# Altium integrated library 3Dheater.IntLib: 53 symbols
Pins are listed as number, name and electrical type; pins without a type are passive.

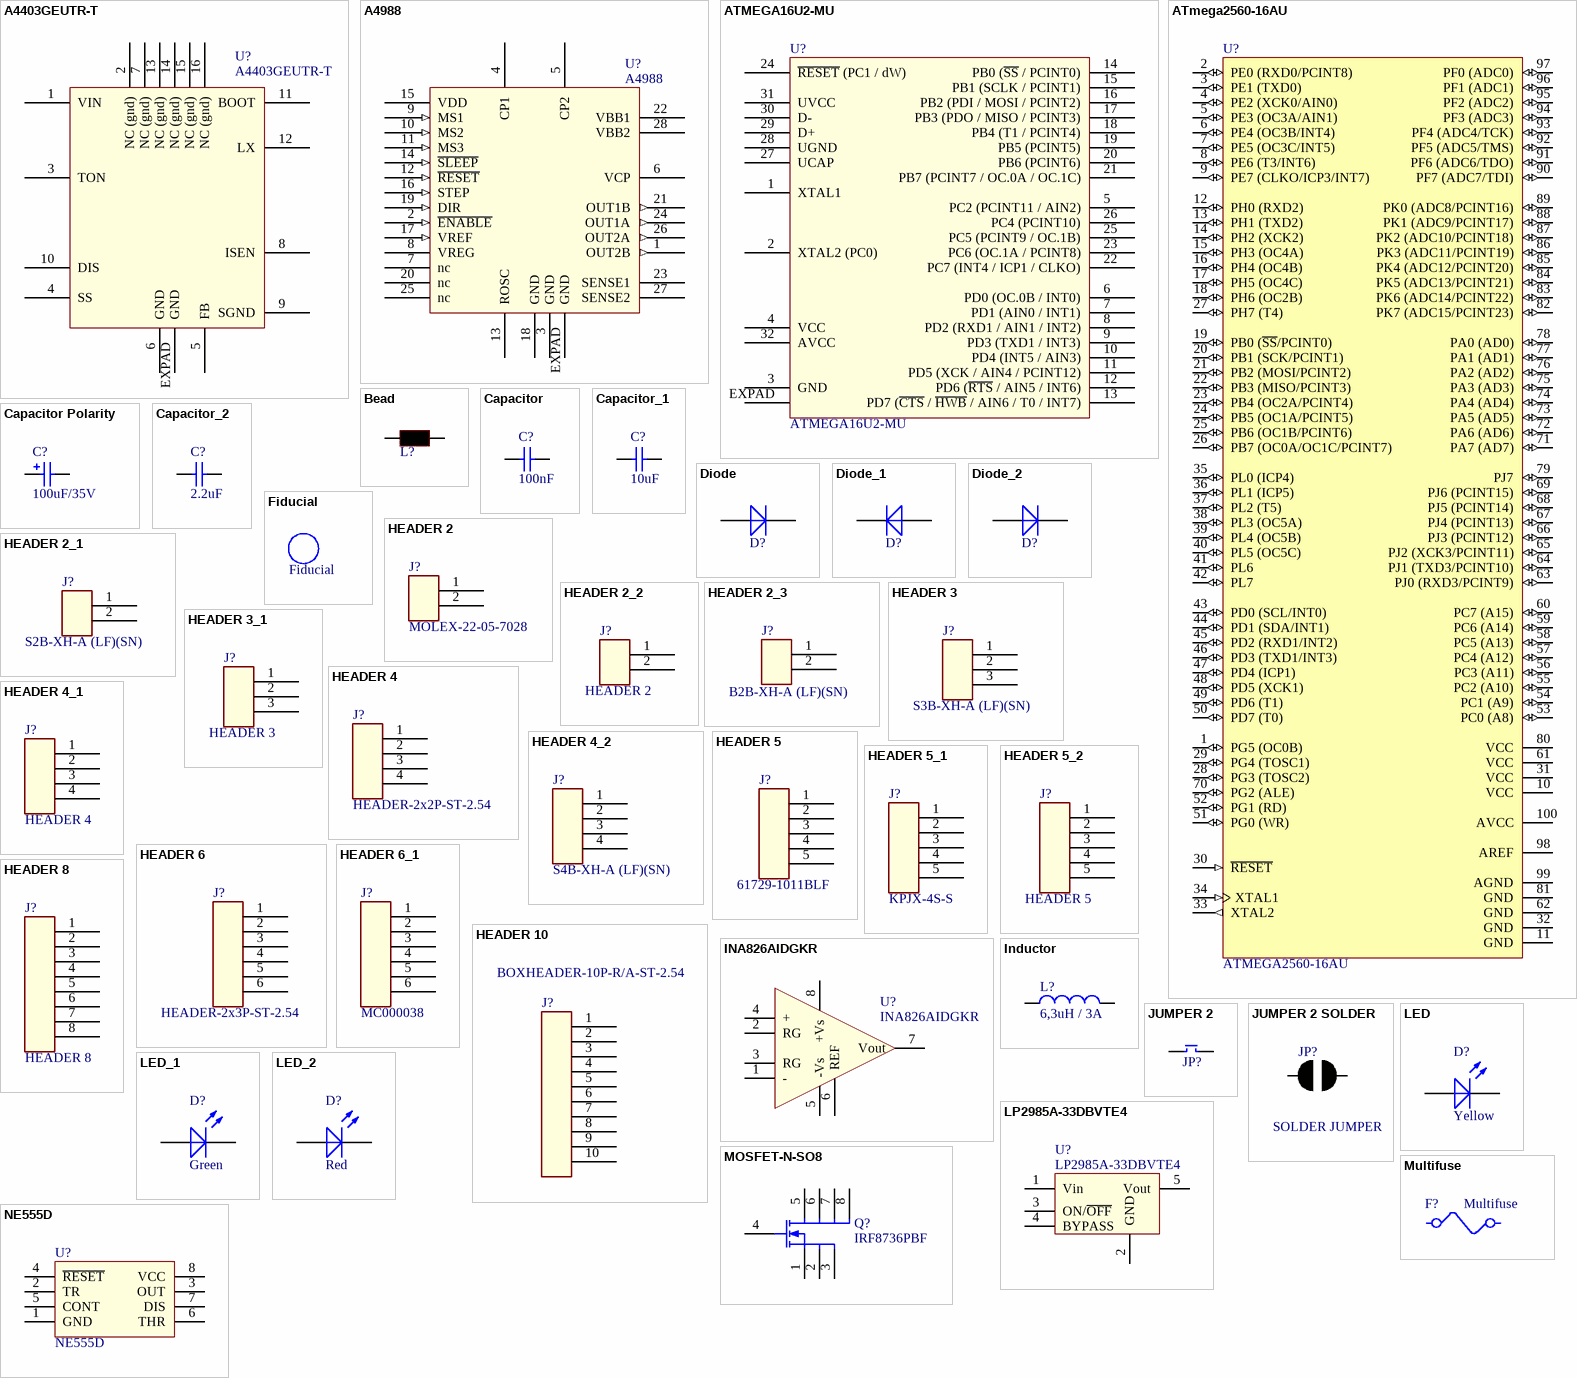
[diagram p0: symbols A4403GEUTR-T to NE555D]

## A4403GEUTR-T
designator U?
RO IC A4403GEUTR-T QFN-16 ALLEGRO; ID: Library_ICS-0010; Info: Valley Current Mode Control Buck Converter; Faber ItemCode: 36924500; Mfg: Allegro; Mfg code: A4403GEUTR-T; Value: A4403GEUTR-T
footprint QFN65P400X400X80-16N-EX
pins: 1 VIN, 2 NC (gnd), 3 TON, 4 SS, 5 FB, 6 GND, 7 NC (gnd), 8 ISEN, 9 SGND, 10 DIS, 11 BOOT, 12 LX, 13 NC (gnd), 14 NC (gnd), 15 NC (gnd), 16 NC (gnd), EXPAD GND

## A4988
designator U?
RO IC A4988 QFN-28 ALLEGRO; ID: Library_ICS-0002; Mfg code: A4988SETTR-T; Info: DMOS Microstepping Driver with Translator and Overcurrent Protection; Faber ItemCode: 36921600; Mfg: Allegro; Value: A4988
footprint QFN50P500X500X100-28-EX
pins: 1 OUT2B (out), 2 ~{ENABLE} (in), 3 GND (power), 4 CP1, 5 CP2, 6 VCP, 7 nc, 8 VREG (power), 9 MS1 (in), 10 MS2 (in), 11 MS3 (in), 12 ~{RESET} (in), 13 ROSC, 14 ~{SLEEP} (in), 15 VDD (power), 16 STEP (in), 17 VREF (in), 18 GND, 19 DIR (in), 20 nc, 21 OUT1B (out), 22 VBB1 (power), 23 SENSE1, 24 OUT1A (out), 25 nc, 26 OUT2A (out), 27 SENSE2, 28 VBB2 (power), EXPAD GND (power)

## ATMEGA16U2-MU
designator U?
RO IC ATMEGA16U2-MU QFN-32 ATMEL; ID: Library_ICS-0004; Info: 8-bit Microcontroller with 16K Bytes of ISP Flash and USB Controller; Faber ItemCode: 36924600; Mfg: Atmel; Mfg code: ATMEGA16U2-MU; Value: ATMEGA16U2-MU
footprint QFN50P500X500X100-32-EX
pins: 1 XTAL1, 2 XTAL2 (PC0), 3 GND, 4 VCC, 5 PC2 (PCINT11 / AIN2), 6 PD0 (OC.0B / INT0), 7 PD1 (AIN0 / INT1), 8 PD2 (RXD1 / AIN1 / INT2), 9 PD3 (TXD1 / INT3), 10 PD4 (INT5 / AIN3), 11 PD5 (XCK / AIN4 / PCINT12), 12 PD6 (~{RTS} / AIN5 / INT6), 13 PD7 (~{CTS} / ~{HWB} / AIN6 / T0 / INT7), 14 PB0 (~{SS} / PCINT0), 15 PB1 (SCLK / PCINT1), 16 PB2 (PDI / MOSI / PCINT2), 17 PB3 (PDO / MISO / PCINT3), 18 PB4 (T1 / PCINT4), 19 PB5 (PCINT5), 20 PB6 (PCINT6), 21 PB7 (PCINT7 / OC.0A / OC.1C), 22 PC7 (INT4 / ICP1 / CLKO), 23 PC6 (OC.1A / PCINT8), 24 ~{RESET} (PC1 / dW), 25 PC5 (PCINT9 / OC.1B), 26 PC4 (PCINT10), 27 UCAP, 28 UGND, 29 D+, 30 D-, 31 UVCC, 32 AVCC, EXPAD

## ATmega2560-16AU
designator U?, comment ATMEGA2560-16AU
RO IC ATMEGA2560-16AU TQFP-100 ATMEL; ID: Library_ICS-0001; Info: 8-bit Atmel Microcontroller with 256KB Flash, 4KB EEPROM, 8KB RAM; Faber ItemCode: 36924700; Mfg: Atmel; Mfg code: ATMEGA2560-16AU; Value: ATMEGA2560-16AU
footprint TSQFP50P1600X1600X120-100N
pins: 1 PG5 (OC0B) (io), 2 PE0 (RXD0/PCINT8) (io), 3 PE1 (TXD0) (io), 4 PE2 (XCK0/AIN0) (io), 5 PE3 (OC3A/AIN1) (io), 6 PE4 (OC3B/INT4) (io), 7 PE5 (OC3C/INT5) (io), 8 PE6 (T3/INT6) (io), 9 PE7 (CLKO/ICP3/INT7) (io), 10 VCC (power), 11 GND (power), 12 PH0 (RXD2) (io), 13 PH1 (TXD2) (io), 14 PH2 (XCK2) (io), 15 PH3 (OC4A) (io), 16 PH4 (OC4B) (io), 17 PH5 (OC4C) (io), 18 PH6 (OC2B) (io), 19 PB0 (~{SS}/PCINT0) (io), 20 PB1 (SCK/PCINT1) (io), 21 PB2 (MOSI/PCINT2) (io), 22 PB3 (MISO/PCINT3) (io), 23 PB4 (OC2A/PCINT4) (io), 24 PB5 (OC1A/PCINT5) (io), 25 PB6 (OC1B/PCINT6) (io), 26 PB7 (OC0A/OC1C/PCINT7) (io), 27 PH7 (T4) (io), 28 PG3 (TOSC2) (io), 29 PG4 (TOSC1) (io), 30 ~{RESET} (in), 31 VCC (power), 32 GND (power), 33 XTAL2 (out), 34 XTAL1 (in), 35 PL0 (ICP4) (io), 36 PL1 (ICP5) (io), 37 PL2 (T5) (io), 38 PL3 (OC5A) (io), 39 PL4 (OC5B) (io), 40 PL5 (OC5C) (io), 41 PL6 (io), 42 PL7 (io), 43 PD0 (SCL/INT0) (io), 44 PD1 (SDA/INT1) (io), 45 PD2 (RXD1/INT2) (io), 46 PD3 (TXD1/INT3) (io), 47 PD4 (ICP1) (io), 48 PD5 (XCK1) (io), 49 PD6 (T1) (io), 50 PD7 (T0) (io), 51 PG0 (WR) (io), 52 PG1 (RD) (io), 53 PC0 (A8) (io), 54 PC1 (A9) (io), 55 PC2 (A10) (io), 56 PC3 (A11) (io), 57 PC4 (A12) (io), 58 PC5 (A13) (io), 59 PC6 (A14) (io), 60 PC7 (A15) (io), 61 VCC (power), 62 GND (power), 63 PJ0 (RXD3/PCINT9) (io), 64 PJ1 (TXD3/PCINT10) (io), 65 PJ2 (XCK3/PCINT11) (io), 66 PJ3 (PCINT12) (io), 67 PJ4 (PCINT13) (io), 68 PJ5 (PCINT14) (io), 69 PJ6 (PCINT15) (io), 70 PG2 (ALE) (io), 71 PA7 (AD7) (io), 72 PA6 (AD6) (io), 73 PA5 (AD5) (io), 74 PA4 (AD4) (io), 75 PA3 (AD3) (io), 76 PA2 (AD2) (io), 77 PA1 (AD1) (io), 78 PA0 (AD0) (io), 79 PJ7 (io), 80 VCC (power), 81 GND (power), 82 PK7 (ADC15/PCINT23) (io), 83 PK6 (ADC14/PCINT22) (io), 84 PK5 (ADC13/PCINT21) (io), 85 PK4 (ADC12/PCINT20) (io), 86 PK3 (ADC11/PCINT19) (io), 87 PK2 (ADC10/PCINT18) (io), 88 PK1 (ADC9/PCINT17) (io), 89 PK0 (ADC8/PCINT16) (io), 90 PF7 (ADC7/TDI) (io), 91 PF6 (ADC6/TDO) (io), 92 PF5 (ADC5/TMS) (io), 93 PF4 (ADC4/TCK) (io), 94 PF3 (ADC3) (io), 95 PF2 (ADC2) (io), 96 PF1 (ADC1) (io), 97 PF0 (ADC0) (io), 98 AREF (power), 99 AGND (power), 100 AVCC (power)

## Bead
designator L?  (value not drawn)
RO FERRIET BLM21PG221SN1D  0805; ID: Library_COIL-0001; Faber ItemCode: 36571200; Value: Bead
footprint L0805
pins: 1, 2

## Capacitor
designator C?, comment 100nF
RO X7R 100nF 10% 50V 0603; ID: Library_CAP-0002; Faber ItemCode: 45068500; Value: 100nF
footprint C0603
pins: 1, 2

## Capacitor Polarity
designator C?, comment 100uF/35V
RO ELCO 100uF 20% 35V CASE-D EEEFP PAN; ID: Library_CAP-0004; Faber ItemCode: 36865800; Value: 100uF/35V
footprint ELCO Case D
pins: 1, 2
1 alternate drawing of the same symbol

## Capacitor_1
designator C?, comment 10uF
RO X5R 10UF 10% 35V 1206; ID: Library_CAP-0005; Faber ItemCode: 35436800; Value: 10uF
footprint C1206
pins: 1, 2

## Capacitor_2
designator C?, comment 2.2uF
RO X5R 2,2uF 10% 50V 0805; ID: Library_CAP-0009; Mfg: MURATA; Mfg code: GRM21BR61H225KA73L; Faber ItemCode: 36924800; Value: 2.2uF
footprint C0805
pins: 1, 2

## Diode
designator D?, comment 1N4148  (value not drawn)
RO DIODE 1N4148WS-V-GS08 SOT-323  VISHAY; ID: Library_DIO-0002; Faber ItemCode: 36650500; Info: Small Signal Fast Switching Diode; Mfg: VISHAY; Value: 1N4148
footprint SOD323
pins: 1 A, 2 K

## Diode_1
designator D?, comment S1G  (value not drawn)
RO DIODE S1G DO-214AC; ID: Library_DIO-0001; Faber ItemCode: 32284000; Info: Fast Rectifiers 1A 400V; Value: S1G
footprint DO214AC (SMA)
pins: 1 A, 2 K

## Diode_2
designator D?, comment S1G  (value not drawn)
RO DIODE S1G DO-214AC; ID: Library_DIO-0001; Faber ItemCode: 32284000; Info: Fast Rectifiers 1A 400V; Value: S1G
footprint DO214AC (SMA)
pins: 1 A, 2 K

## Fiducial
designator Fid?  (no BOM)
ID: Library_MISC-0003; Faber ItemCode: -; Mfg: -; Mfg code: -; Value: Fiducial
footprint Fiducial

## HEADER 2
designator J?, comment MOLEX-22-05-7028
RO CONN PR 2p HKS 22-05-7028 MOLEX; ID: Library_CON-0006; Info: 2.54mm Pitch KK?Wire-to-Board Header, Right Angle, with Friction Lock, 2 Circuits; Faber ItemCode: 36926400; Mfg: MOLEX; Mfg code: 22-05-7028; Value: MOLEX-22-05-7028
footprint MOLEX-22-05-7028
pins: 1, 2

## HEADER 2_1
designator J?, comment S2B-XH-A (LF)(SN)
RO CONN PR 2p HKS S2B-XH-A (LF)(SN) JST; ID: Library_CON-0004; Mfg: JST (JAPAN SOLDERLESS TERMINALS); Faber ItemCode: 36926700; Mfg code: S2B-XH-A (LF)(SN); Value: S2B-XH-A (LF)(SN)
footprint S2B-XH-A (LF)(SN)
pins: 1, 2

## HEADER 2_2
designator J?, comment HEADER 2
HEADER-1x2P-ST-2.54; ID: Library_CON-0013; Value: HEADER 2
footprint HEADER-1x2P-ST-2.54
pins: 1, 2

## HEADER 2_3
designator J?, comment B2B-XH-A (LF)(SN)
CONN PR 2p B2B-XH-A JST; ID: Library_CON-0004; Mfg: JST (JAPAN SOLDERLESS TERMINALS); Faber ItemCode: 36863500; Mfg code: B2B-XH-A (LF)(SN); Value: B2B-XH-A (LF)(SN)
footprint B2B-XH-A (LF)(SN)
pins: 1, 2

## HEADER 3
designator J?, comment S3B-XH-A (LF)(SN)
RO CONN PR 3p HKS S3B-XH-A (LF)(SN) JST; ID: Library_CON-0020; Faber ItemCode: 36948200; Mfg: JST (JAPAN SOLDERLESS TERMINALS); Mfg code: S3B-XH-A (LF)(SN); Value: S3B-XH-A (LF)(SN)
footprint S3B-XH-A (LF)(SN)
pins: 1, 2, 3

## HEADER 3_1
designator J?, comment HEADER 3
HEADER-1x3P-ST-2.54; ID: Library_CON-0017; Value: HEADER 3
footprint HEADER-1x3P-ST-2.54
pins: 1, 2, 3

## HEADER 4
designator J?, comment HEADER-2x2P-ST-2.54
HDR 2X2P; ID: Library_CON-0011; Value: HEADER-2x2P-ST-2.54
footprint HEADER-2x2P-ST-2.54
pins: 1, 2, 3, 4

## HEADER 4_1
designator J?, comment HEADER 4
HEADER-1x4P-ST-2.54; ID: Library_CON-0014; Value: HEADER 4
footprint HEADER-1x4P-ST-2.54
pins: 1, 2, 3, 4

## HEADER 4_2
designator J?, comment S4B-XH-A (LF)(SN)
RO CONN PR 4p HKS S4B-XH-A (LF)(SN) JST; ID: Library_CON-0005; Mfg: JST (JAPAN SOLDERLESS TERMINALS); Faber ItemCode: 36926500; Mfg code: S4B-XH-A (LF)(SN); Value: S4B-XH-A (LF)(SN)
footprint S4B-XH-A (LF)(SN)
pins: 1, 2, 3, 4

## HEADER 5
designator J?, comment 61729-1011BLF
RO CONN PR USB-B HKS 61729-1011BLF FCI; ID: Library_CON-0001; Faber ItemCode: 36924400; Mfg: FCI; Mfg code: 61729-1011BLF; Value: 61729-1011BLF
footprint 61729-1011BLF
pins: 1, 2, 3, 4, 5

## HEADER 5_1
designator J?, comment KPJX-4S-S
RO CONN PR KPJX-4S-S KYCON; ID: Library_CON-0009; Info: Shielded version; Faber ItemCode: 36925000; Mfg: KYCON; Mfg code: KPJX-4S-S; Value: KPJX-4S-S
footprint KPJX-4S-S
pins: 1, 2, 3, 4, 5

## HEADER 5_2
designator J?, comment HEADER 5
HEADER-1x5P-ST-2.54; ID: Library_CON-0015; Value: HEADER 5
footprint HEADER-1x5P-ST-2.54
pins: 1, 2, 3, 4, 5

## HEADER 6
designator J?, comment HEADER-2x3P-ST-2.54
RO CONN PR HDR 2X3P H4B-06DS-0000 INT; ID: Library_CON-0003; Faber ItemCode: 35149900; Value: HEADER-2x3P-ST-2.54
footprint HEADER-2x3P-ST-2.54
pins: 1, 2, 3, 4, 5, 6

## HEADER 6_1
designator J?, comment MC000038
RO CONN PR 6p MC000038 MULTICOMP; ID: Library_CON-0008; Faber ItemCode: 36925200; Mfg: MULTICOMP; Mfg code: MC000038; Value: MC000038
footprint MC000038
pins: 1, 2, 3, 4, 5, 6

## HEADER 8
designator J?
HEADER-1x8P-ST-2.54; ID: Library_CON-0016; Value: HEADER 8
footprint HEADER-1x8P-ST-2.54
pins: 1, 2, 3, 4, 5, 6, 7, 8

## HEADER 10
designator J?, comment BOXHEADER-10P-R/A-ST-2.54
RO CONN PR HDR BOX 10p HKS 61201021721 WUERTH; ID: Library_CON-0019; Faber ItemCode: 36925800; Value: BOXHEADER-10P-R/A-ST-2.54
footprint BOXHEADER-10P-R/A-ST-2.54
pins: 1, 2, 3, 4, 5, 6, 7, 8, 9, 10

## INA826AIDGKR
designator U?
RO IC INA826AIDGKR MSOP-8 TI; Mfg: Texas Instruments; ID: Library_ICS-0003; Info: Precision, 200-礎 Supply Current, 2.7-V to 36-V Supply Instrumentation Amplifier with Rail-to-Rail Output; Faber ItemCode: 36926300; Mfg code: INA826AIDGKR; Value: INA826AIDGKR
footprint TSOP65P490X110-8N (MSOP8)
pins: 1 -, 2 RG, 3 RG, 4 +, 5 -Vs, 6 REF, 7 Vout, 8 +Vs

## Inductor
designator L?, comment 6,3uH / 3A
RO SPOEL 6,3uH 20% NRS6045T 6R3MMGK TAIYO YUDEN; ID: Library_COIL-0002; Faber ItemCode: 36925300; Mfg code: NRS6045T 6R3MMGK; Value: 6,3uH / 3A; Mfg: TAIYO YUDEN
footprint NRS6045
pins: 1, 2

## JUMPER 2
designator JP?, comment HEADER 2  (value not drawn)
HEADER-1x2P-ST-2.54; ID: Library_CON-0018; Value: HEADER 2
footprint HEADER-1x2P-ST-2.54
pins: 1, 2

## JUMPER 2 SOLDER
designator JP?, comment SOLDER JUMPER
ID: Library_CON-0010; Mfg: -; Mfg code: -; Value: SOLDER JUMPER
footprint JUMPER 2 SOLDER
pins: 1, 2

## LED
designator D?, comment Yellow
RO LED GEEL HSMY-C170 0805  AVAGO; ID: Library_LED-0003; Faber ItemCode: 35160800; Mfg: AVAGO; Mfg code: HSMY-C170; Value: Yellow
footprint LED0805-YELLOW
pins: 1 A, 2 K

## LED_1
designator D?, comment Green
RO LED GROEN HSMG-C170 0805 AVAGO; ID: Library_LED-0002; Faber ItemCode: 35162200; Mfg: AVAGO; Mfg code: HSMG-C170; Value: Green
footprint LED0805-GREEN
pins: 1 A, 2 K

## LED_2
designator D?, comment Red
RO LED ROOD HSMH-C170 0805 AVAGO; ID: Library_LED-0001; Faber ItemCode: 35162100; Mfg: AVAGO; Mfg code: HSMH-C170; Value: Red
footprint LED0805-RED
pins: 1 A, 2 K

## LP2985A-33DBVTE4
designator U?
RO STABI LP2985A-33DBVTE4 SOT-23-5 TI; Mfg: Texas Instruments; ID: Library_ICS-0008; Info: 150-mA LOW-NOISE LOW-DROPOUT REGULATOR WITH SHUTDOWN; Faber ItemCode: 36925100; Mfg code: LP2985A-33DBVTE4; Value: LP2985A-33DBVTE4
footprint SOT95P280X145-5N (SOT23-5L)
pins: 1 Vin, 2 GND, 3 ON/~{OFF}, 4 BYPASS, 5 Vout

## MOSFET-N-SO8
designator Q?, comment IRF8736PBF
IRF8736PBF - MOSFET, N SO-8; Mfg: INTERNATIONAL RECTIFIER; ID: LIBRARY_FET-0002; Info: HEXFET Power MOSFET; Faber ItemCode: 36926000; Mfg code: IRF8736PBF; Value: IRF8736PBF
footprint SOIC127P600X175-8N (SO8)
pins: 1 S, 2 S, 3 S, 4 G, 5 D, 6 D, 7 D, 8 D

## Multifuse
designator F?
RO ZEK MULTI 500MA SMD 1812 MF-MSMF050-2 BOURNS; ID: Library_FUSE-0001; Faber ItemCode: 35502800; Info: MULTIFUSE, SMD, 0.5A; Value: 0.5A; Mfg: BOURNS; Mfg code: MF-MSMF050-2
footprint Multifuse1812
pins: 1, 2

## NE555D
designator U?
RO IC NE555D SO-08 TI; ID: Library_ICS-0009; Faber ItemCode: 35318300; Mfg: Texas Instruments; Mfg code: SE555DRG4; Info: PRECISION TIMER; Value: NE555D
footprint SOIC127P600X175-8N (SO8)
pins: 1 GND, 2 TR, 3 OUT, 4 ~{RESET}, 5 CONT, 6 THR, 7 DIS, 8 VCC

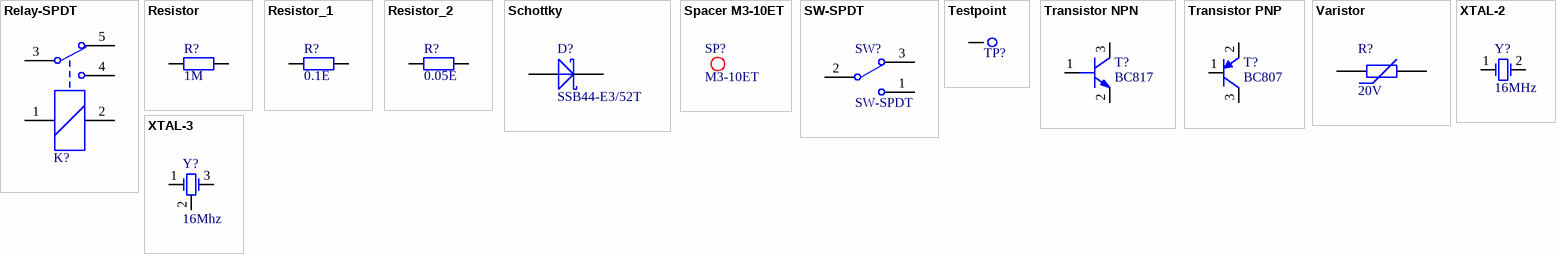
[diagram p1: symbols Relay-SPDT to XTAL-3]

## Relay-SPDT
designator K?  (value not drawn)
RO REL 5V HRS4-S DC5V MULTICOMP; ID: Library_REL-0001; Faber ItemCode: 36924900; Mfg: MULTICOMP; Mfg code: HRS4-S DC5V; Value: HRS4-S
footprint HRS4-S
pins: 1, 2, 3, 4, 5

## Resistor
designator R?, comment 1M
RO RES 1M0 1% 0,1W 0603; ID: Library_RES-0003; Faber ItemCode: 36059900; Info: Resistor; Value: 1M
footprint R0603
pins: 1, 2

## Resistor_1
designator R?, comment 0.1E
RO RES 0E1 1% 0,25W 1206; ID: Library_RES-0016; Mfg: YAGEO; Mfg code: RL1206FR-7W0R1L; Info: Resistor; Value: 0.1E
footprint R1206
pins: 1, 2

## Resistor_2
designator R?, comment 0.05E
RO RES 0E05 1% 0,125W 0805; ID: Library_RES-0013; Mfg: BOURNS; Mfg code: CRL0805-FW-R050ELF; Info: Resistor; Faber ItemCode: 36925700; Value: 0.05E
footprint R0805
pins: 1, 2

## Schottky
designator D?, comment SSB44-E3/52T
RO DIODE SSB44-E3/52T SMB VISHAY; ID: Library_DIO-0003; Info: High-Current Density Surface Mount Schottky Rectifier; Faber ItemCode: 36925500; Mfg: VISHAY; Mfg code: SSB44-E3/52T; Value: SSB44-E3/52T
footprint DO214AA (SMB)
pins: 1 A, 2 K

## Spacer M3-10ET
designator SP?, comment M3-10ET
MOER-SMD SMTSO-M3-10ET  PEM; Faber ItemCode: 36462900; Bestel grote: 300; Prijs: 0.4311; Mfg: PEM; Mfg code: SMTSO-M3-10ET; Value: -; Remarks: -; Supplier: Onkenhout & Onkenhout; Supplier code: SMTSO-M3-10ET; Max soldering temp: -; SMD: Yes; Faber Artikelomschrijving: MOER-SMD SMTSO-M3-10ET  PEM
footprint Spacer M3-10ET

## SW-SPDT
designator SW?
Rocker switch,SPDT,on-none-on,RA,snap-in; Mfg: RS Components; Mfg code: 4MS1R202BM6NQNS; ID: Library_SWI-0001; Faber ItemCode: 36925400; Value: SPDT
footprint RS 734-6918
pins: 1, 2, 3

## Testpoint
designator TP?  (value not drawn)
ID: Library_MISC-0001; Info: Testpoint, 2mm, round; Faber ItemCode: -; Mfg: -; Mfg code: -; Value: Testpoint
footprint Testpoint
pins: 1

## Transistor NPN
designator T?, comment BC817
RO TRANS BC817-25  SOT-23; ID: Library_TRA-0001; Faber ItemCode: 30828000; Info: 45 V, 500 mA NPN general-purpose transistors; Value: BC817
footprint SOT23
pins: 1 BASE, 2 EMITTER, 3 COLLECTOR

## Transistor PNP
designator T?, comment BC807
RO TRANS BC807-40  SOT-23; ID: Library_TRA-0002; Faber ItemCode: 30827800; Info: 45 V, 500 mA PNP general-purpose transistors; Value: BC807
footprint SOT23
pins: 1 B, 2 E, 3 C

## Varistor
designator R?, comment 20V
RO VDR 0603 CG0603MLC-05E; ID: Library_RES-0012; Mfg: BOURNS; Info: Varistor; Faber ItemCode: 36925900; Mfg code: CG0603MLC-05E; Value: 20V
footprint R0603
pins: 1, 2

## XTAL-2
designator Y?, comment 16MHz
RO KRISTAL 16.0MHz  HC49/4HSMX  SMD CMAC; ID: LIBRARY_XTAL-0001; Mfg code: XT49M-2016M; Info: Low Profile SMD Type Crystal Units; Faber ItemCode: 36298900; Mfg: CMAC; Value: 16MHz
footprint XT49M-2016M
pins: 1, 2

## XTAL-3
designator Y?, comment 16Mhz
RO KRIS 16MHz CSTCE16M0V53-R0 SMD MURATA; ID: LIBRARY_XTAL-0002; Info: Build in cap; Faber ItemCode: 36925600; Mfg: MURATA; Mfg code: CSTCE16M0V53-R0; Value: 16Mhz
footprint CSTC
pins: 1, 2, 3